# EAGLE library part TD-122-T-AA (library SAMTEC-Txx_By_element14_Batch_1)
CONN RECEPTACLE, 2.54MM, THT VERT, 44WAY
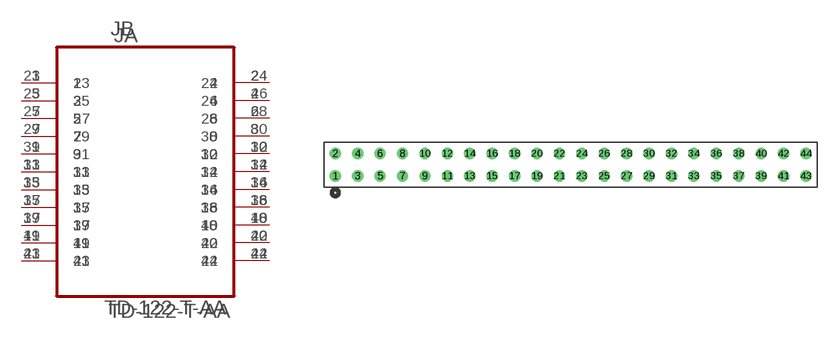
[diagram p47: symbol with the pads of SAMTEC_TD-122-T-AA; footprint SAMTEC_TD-122-T-AA]

Designator prefix J; gates A=TD-122-T-AA_A B=TD-122-T-AA_B

## TD-122-T-AA (MPN: TD-122-T-AA; OC_FARNELL: 2020204; OC_NEWARK: -; PACKAGE: RECEPTACLE, 2.54MM, THT VERT,44WAY; SUPPLIER: SAMTEC)  [SAMTEC_TD-122-T-AA]
1  A:1  pas
2  A:2  pas
3  A:3  pas
4  A:4  pas
5  A:5  pas
6  A:6  pas
7  A:7  pas
8  A:8  pas
9  A:9  pas
10  A:10  pas
11  A:11  pas
12  A:12  pas
13  A:13  pas
14  A:14  pas
15  A:15  pas
16  A:16  pas
17  A:17  pas
18  A:18  pas
19  A:19  pas
20  A:20  pas
21  A:21  pas
22  A:22  pas
23  B:23  pas
24  B:24  pas
25  B:25  pas
26  B:26  pas
27  B:27  pas
28  B:28  pas
29  B:29  pas
30  B:30  pas
31  B:31  pas
32  B:32  pas
33  B:33  pas
34  B:34  pas
35  B:35  pas
36  B:36  pas
37  B:37  pas
38  B:38  pas
39  B:39  pas
40  B:40  pas
41  B:41  pas
42  B:42  pas
43  B:43  pas
44  B:44  pas

## Footprint SAMTEC_TD-122-T-AA (pad centres in mm)
drill 0.762: 1 -53.34,-2.54; 2 -53.34,0; 3 -50.8,-2.54; 4 -50.8,0; 5 -48.26,-2.54; 6 -48.26,0; 7 -45.72,-2.54; 8 -45.72,0; 9 -43.18,-2.54; 10 -43.18,0; 11 -40.64,-2.54; 12 -40.64,0; 13 -38.1,-2.54; 14 -38.1,0; 15 -35.56,-2.54; 16 -35.56,0; 17 -33.02,-2.54; 18 -33.02,0; 19 -30.48,-2.54; 20 -30.48,0; 21 -27.94,-2.54; 22 -27.94,0; 23 -25.4,-2.54; 24 -25.4,0; 25 -22.86,-2.54; 26 -22.86,0; 27 -20.32,-2.54; 28 -20.32,0; 29 -17.78,-2.54; 30 -17.78,0; 31 -15.24,-2.54; 32 -15.24,0; 33 -12.7,-2.54; 34 -12.7,0; 35 -10.16,-2.54; 36 -10.16,0; 37 -7.62,-2.54; 38 -7.62,0; 39 -5.08,-2.54; 40 -5.08,0; 41 -2.54,-2.54; 42 -2.54,0; 43 0,-2.54; 44 0,0